# Altium schematic symbol library Thermistor - NTC.SchLib: 283 symbols (part 1 of 5)
Pins are listed as number, name and electrical type; pins without a type are passive.

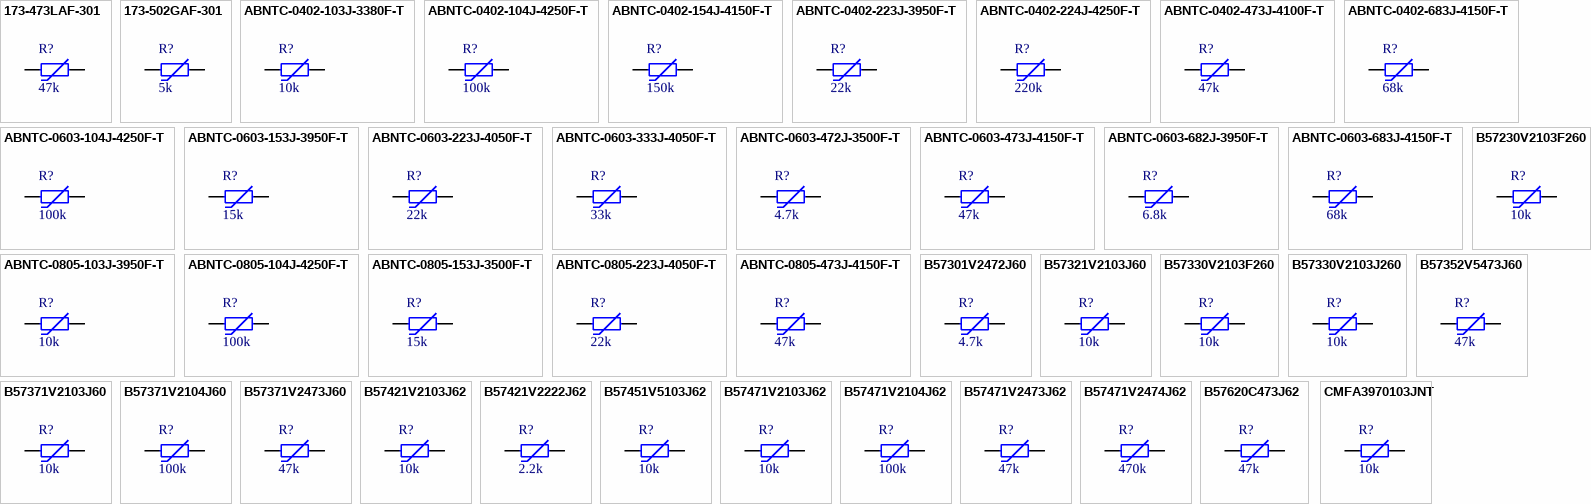
[diagram p0: symbols 173-473LAF-301 to CMFA3970103JNT]

## 173-473LAF-301
designator R?  Resistance in Ohms @ 25C: 47k
THERMISTOR NTC 47KOHM 5% 0805; Part Number: 173-473LAF-301; Manufacturer: Honeywell Sensing and Productivity Solutions; Value: 47k; TemperatureRange: -60C ~ 125C; B Value Tolerance: 1.3%; B25/85: 4150K; PartId: 16717; Supplier 1: Digi-Key; Supplier Part Number 1: 480-3151-2-ND; ComponentLink1Description: Datasheet; ComponentLink1URL: http://sensing.honeywell.com/index.php?ci_id=45718; ComponentLink2Description: Digi-Key Listing; ComponentLink2URL: https://www.digikey.com/product-detail/en/honeywell-sensing-and-productivity-solutions/173-473LAF-301/480-3151-2-ND/1886037; Price: 0.4831; Resistance Tolerance: 5%; Device Package: 0805 (2012 Metric)
footprint NTC 0805/2012
pins: 1, 2

## 173-502GAF-301
designator R?  Resistance in Ohms @ 25C: 5k
THERMISTOR NTC 5KOHM 5% 0805; Part Number: 173-502GAF-301; Manufacturer: Honeywell Sensing and Productivity Solutions; Value: 5k; TemperatureRange: -60C ~ 125C; B25/85: 3550K; PartId: 16741; Supplier 1: Digi-Key; Supplier Part Number 1: 480-3152-2-ND; ComponentLink1Description: Datasheet; ComponentLink1URL: http://sensing.honeywell.com/index.php?ci_id=45718; ComponentLink2Description: Digi-Key Listing; ComponentLink2URL: https://www.digikey.com/product-detail/en/honeywell-sensing-and-productivity-solutions/173-502GAF-301/480-3152-2-ND/1886038; Price: 0.3519; Resistance Tolerance: 5%; Device Package: 0805 (2012 Metric)
footprint NTC 0805/2012
pins: 1, 2

## ABNTC-0402-103J-3380F-T
designator R?  Resistance in Ohms @ 25C: 10k
NTC 10KOHM 5% 3380K 1%; Part Number: ABNTC-0402-103J-3380F-T; Manufacturer: Abracon LLC; Value: 10k; TemperatureRange: -55C ~ 125C; Power - Max: 100mW; PartId: 16514; Supplier 1: Digi-Key; Supplier Part Number 1: 535-12857-2-ND; ComponentLink1Description: Datasheet; ComponentLink1URL: http://www.abracon.com/Magnetics/inductors/ABNTC-0402.pdf; ComponentLink2Description: Digi-Key Listing; ComponentLink2URL: https://www.digikey.com/product-detail/en/abracon-llc/ABNTC-0402-103J-3380F-T/535-12857-2-ND/4245571; Price: 0.0493; Resistance Tolerance: 5%; B Value Tolerance: 1%; B25/50: 3380K; Device Package: 0402 (1005 Metric)
footprint FER 0402/1005
pins: 1, 2

## ABNTC-0402-104J-4250F-T
designator R?  Resistance in Ohms @ 25C: 100k
THERMISTOR NTC 100K OHM 5% 0402; Part Number: ABNTC-0402-104J-4250F-T; Manufacturer: Abracon LLC; TemperatureRange: -55C ~ 125C; B Value Tolerance: 1%; B25/50: 4250K; Power - Max: 100mW; Value: 100k; PartId: 16510; Supplier 1: Digi-Key; Supplier Part Number 1: 535-12861-2-ND; ComponentLink1Description: Datasheet; ComponentLink1URL: http://www.abracon.com/Magnetics/inductors/ABNTC-0402.pdf; ComponentLink2Description: Digi-Key Listing; ComponentLink2URL: https://www.digikey.com/product-detail/en/abracon-llc/ABNTC-0402-104J-4250F-T/535-12861-2-ND/4245575; Price: 0.0493; Resistance Tolerance: 5%; Device Package: 0402 (1005 Metric)
footprint FER 0402/1005
pins: 1, 2

## ABNTC-0402-154J-4150F-T
designator R?  Resistance in Ohms @ 25C: 150k
NTC 150KOHM 5% 4150K 1%; Part Number: ABNTC-0402-154J-4150F-T; Manufacturer: Abracon LLC; Value: 150k; TemperatureRange: -55C ~ 125C; Power - Max: 100mW; PartId: 16509; Supplier 1: Digi-Key; Supplier Part Number 1: 535-12862-2-ND; ComponentLink1Description: Datasheet; ComponentLink1URL: http://www.abracon.com/Magnetics/inductors/ABNTC-0402.pdf; ComponentLink2Description: Digi-Key Listing; ComponentLink2URL: https://www.digikey.com/product-detail/en/abracon-llc/ABNTC-0402-154J-4150F-T/535-12862-2-ND/4245576; Price: 0.0493; Resistance Tolerance: 5%; B Value Tolerance: 1%; B25/50: 4150K; Device Package: 0402 (1005 Metric)
footprint FER 0402/1005
pins: 1, 2

## ABNTC-0402-223J-3950F-T
designator R?  Resistance in Ohms @ 25C: 22k
NTC 22KOHM 5% 3950K 1%; Part Number: ABNTC-0402-223J-3950F-T; Manufacturer: Abracon LLC; Value: 22k; TemperatureRange: -55C ~ 125C; Power - Max: 100mW; PartId: 16513; Supplier 1: Digi-Key; Supplier Part Number 1: 535-12858-2-ND; ComponentLink1Description: Datasheet; ComponentLink1URL: http://www.abracon.com/Magnetics/inductors/ABNTC-0402.pdf; ComponentLink2Description: Digi-Key Listing; ComponentLink2URL: https://www.digikey.com/product-detail/en/abracon-llc/ABNTC-0402-223J-3950F-T/535-12858-2-ND/4245572; Price: 0.0493; Resistance Tolerance: 5%; B Value Tolerance: 1%; B25/50: 3950K; Device Package: 0402 (1005 Metric)
footprint FER 0402/1005
pins: 1, 2

## ABNTC-0402-224J-4250F-T
designator R?  Resistance in Ohms @ 25C: 220k
NTC 220KOHM 5% 4250K 1%; Part Number: ABNTC-0402-224J-4250F-T; Manufacturer: Abracon LLC; Value: 220k; TemperatureRange: -55C ~ 125C; Power - Max: 100mW; PartId: 16508; Supplier 1: Digi-Key; Supplier Part Number 1: 535-12863-2-ND; ComponentLink1Description: Datasheet; ComponentLink1URL: http://www.abracon.com/Magnetics/inductors/ABNTC-0402.pdf; ComponentLink2Description: Digi-Key Listing; ComponentLink2URL: https://www.digikey.com/product-detail/en/abracon-llc/ABNTC-0402-224J-4250F-T/535-12863-2-ND/4245577; Price: 0.0493; Resistance Tolerance: 5%; B Value Tolerance: 1%; B25/50: 4250K; Device Package: 0402 (1005 Metric)
footprint FER 0402/1005
pins: 1, 2

## ABNTC-0402-473J-4100F-T
designator R?  Resistance in Ohms @ 25C: 47k
NTC 47KOHM 5% 4100K 1%; Part Number: ABNTC-0402-473J-4100F-T; Manufacturer: Abracon LLC; Value: 47k; TemperatureRange: -55C ~ 125C; Power - Max: 100mW; PartId: 16512; Supplier 1: Digi-Key; Supplier Part Number 1: 535-12859-2-ND; ComponentLink1Description: Datasheet; ComponentLink1URL: http://www.abracon.com/Magnetics/inductors/ABNTC-0402.pdf; ComponentLink2Description: Digi-Key Listing; ComponentLink2URL: https://www.digikey.com/product-detail/en/abracon-llc/ABNTC-0402-473J-4100F-T/535-12859-2-ND/4245573; Price: 0.0493; Resistance Tolerance: 5%; B Value Tolerance: 1%; B25/50: 4100K; Device Package: 0402 (1005 Metric)
footprint FER 0402/1005
pins: 1, 2

## ABNTC-0402-683J-4150F-T
designator R?  Resistance in Ohms @ 25C: 68k
NTC 68KOHM 5% 4150K 1%; Part Number: ABNTC-0402-683J-4150F-T; Manufacturer: Abracon LLC; Value: 68k; TemperatureRange: -55C ~ 125C; Power - Max: 100mW; PartId: 16511; Supplier 1: Digi-Key; Supplier Part Number 1: 535-12860-2-ND; ComponentLink1Description: Datasheet; ComponentLink1URL: http://www.abracon.com/Magnetics/inductors/ABNTC-0402.pdf; ComponentLink2Description: Digi-Key Listing; ComponentLink2URL: https://www.digikey.com/product-detail/en/abracon-llc/ABNTC-0402-683J-4150F-T/535-12860-2-ND/4245574; Price: 0.0493; Resistance Tolerance: 5%; B Value Tolerance: 1%; B25/50: 4150K; Device Package: 0402 (1005 Metric)
footprint FER 0402/1005
pins: 1, 2

## ABNTC-0603-104J-4250F-T
designator R?  Resistance in Ohms @ 25C: 100k
THERMISTOR NTC 100K OHM 5% 0603; Part Number: ABNTC-0603-104J-4250F-T; Manufacturer: Abracon LLC; TemperatureRange: -55C ~ 125C; B Value Tolerance: 1%; B25/50: 4250K; Power - Max: 100mW; Value: 100k; PartId: 16646; Supplier 1: Digi-Key; Supplier Part Number 1: 535-12851-2-ND; ComponentLink1Description: Datasheet; ComponentLink1URL: http://www.abracon.com/Magnetics/inductors/ABNTC-0603.pdf; ComponentLink2Description: Digi-Key Listing; ComponentLink2URL: https://www.digikey.com/product-detail/en/abracon-llc/ABNTC-0603-104J-4250F-T/535-12851-2-ND/4245602; Price: 0.0799; Resistance Tolerance: 5%; Device Package: 0603 (1608 Metric)
footprint FER 0603/1608
pins: 1, 2

## ABNTC-0603-153J-3950F-T
designator R?  Resistance in Ohms @ 25C: 15k
NTC 15KOHM 5% 3950K 1%; Part Number: ABNTC-0603-153J-3950F-T; Manufacturer: Abracon LLC; Value: 15k; TemperatureRange: -55C ~ 125C; Power - Max: 100mW; PartId: 16650; Supplier 1: Digi-Key; Supplier Part Number 1: 535-12846-2-ND; ComponentLink1Description: Datasheet; ComponentLink1URL: http://www.abracon.com/Magnetics/inductors/ABNTC-0603.pdf; ComponentLink2Description: Digi-Key Listing; ComponentLink2URL: https://www.digikey.com/product-detail/en/abracon-llc/ABNTC-0603-153J-3950F-T/535-12846-2-ND/4245597; Price: 0.0799; Resistance Tolerance: 5%; B Value Tolerance: 1%; B25/50: 3950K; Device Package: 0603 (1608 Metric)
footprint FER 0603/1608
pins: 1, 2

## ABNTC-0603-223J-4050F-T
designator R?  Resistance in Ohms @ 25C: 22k
NTC 22KOHM 5% 4050K 1%; Part Number: ABNTC-0603-223J-4050F-T; Manufacturer: Abracon LLC; Value: 22k; TemperatureRange: -55C ~ 125C; Power - Max: 100mW; PartId: 16629; Supplier 1: Digi-Key; Supplier Part Number 1: 535-12847-2-ND; ComponentLink1Description: Datasheet; ComponentLink1URL: //media.digikey.com/pdf/Data%20Sheets/Abracon%20Corp%20PDFs/ABNTC-0603_Pkg_Dwg.PDF; ComponentLink2Description: Digi-Key Listing; ComponentLink2URL: https://www.digikey.com/product-detail/en/abracon-llc/ABNTC-0603-223J-4050F-T/535-12847-2-ND/4245598; Price: 0.0799; Resistance Tolerance: 5%; B Value Tolerance: 1%; B25/50: 4050K; Device Package: 0603 (1608 Metric)
footprint FER 0603/1608
pins: 1, 2

## ABNTC-0603-333J-4050F-T
designator R?  Resistance in Ohms @ 25C: 33k
NTC 33KOHM 5% 4050K 1%; Part Number: ABNTC-0603-333J-4050F-T; Manufacturer: Abracon LLC; Value: 33k; TemperatureRange: -55C ~ 125C; Power - Max: 100mW; PartId: 16649; Supplier 1: Digi-Key; Supplier Part Number 1: 535-12848-2-ND; ComponentLink1Description: Datasheet; ComponentLink1URL: http://www.abracon.com/Magnetics/inductors/ABNTC-0603.pdf; ComponentLink2Description: Digi-Key Listing; ComponentLink2URL: https://www.digikey.com/product-detail/en/abracon-llc/ABNTC-0603-333J-4050F-T/535-12848-2-ND/4245599; Price: 0.0799; Resistance Tolerance: 5%; B Value Tolerance: 1%; B25/50: 4050K; Device Package: 0603 (1608 Metric)
footprint FER 0603/1608
pins: 1, 2

## ABNTC-0603-472J-3500F-T
designator R?  Resistance in Ohms @ 25C: 4.7k
NTC 4.7KOHM 5% 3500K 1%; Part Number: ABNTC-0603-472J-3500F-T; Manufacturer: Abracon LLC; Value: 4.7k; TemperatureRange: -55C ~ 125C; Power - Max: 100mW; PartId: 16652; Supplier 1: Digi-Key; Supplier Part Number 1: 535-12844-2-ND; ComponentLink1Description: Datasheet; ComponentLink1URL: http://www.abracon.com/Magnetics/inductors/ABNTC-0603.pdf; ComponentLink2Description: Digi-Key Listing; ComponentLink2URL: https://www.digikey.com/product-detail/en/abracon-llc/ABNTC-0603-472J-3500F-T/535-12844-2-ND/4245595; Price: 0.0799; Resistance Tolerance: 5%; B Value Tolerance: 1%; B25/50: 3500K; Device Package: 0603 (1608 Metric)
footprint FER 0603/1608
pins: 1, 2

## ABNTC-0603-473J-4150F-T
designator R?  Resistance in Ohms @ 25C: 47k
NTC 47KOHM 5% 4150K 1%; Part Number: ABNTC-0603-473J-4150F-T; Manufacturer: Abracon LLC; Value: 47k; TemperatureRange: -55C ~ 125C; Power - Max: 100mW; PartId: 16648; Supplier 1: Digi-Key; Supplier Part Number 1: 535-12849-2-ND; ComponentLink1Description: Datasheet; ComponentLink1URL: http://www.abracon.com/Magnetics/inductors/ABNTC-0603.pdf; ComponentLink2Description: Digi-Key Listing; ComponentLink2URL: https://www.digikey.com/product-detail/en/abracon-llc/ABNTC-0603-473J-4150F-T/535-12849-2-ND/4245600; Price: 0.0799; Resistance Tolerance: 5%; B Value Tolerance: 1%; B25/50: 4150K; Device Package: 0603 (1608 Metric)
footprint FER 0603/1608
pins: 1, 2

## ABNTC-0603-682J-3950F-T
designator R?  Resistance in Ohms @ 25C: 6.8k
NTC 6.8KOHM 5% 3950K 1%; Part Number: ABNTC-0603-682J-3950F-T; Manufacturer: Abracon LLC; Value: 6.8k; TemperatureRange: -55C ~ 125C; Power - Max: 100mW; PartId: 16651; Supplier 1: Digi-Key; Supplier Part Number 1: 535-12845-2-ND; ComponentLink1Description: Datasheet; ComponentLink1URL: http://www.abracon.com/Magnetics/inductors/ABNTC-0603.pdf; ComponentLink2Description: Digi-Key Listing; ComponentLink2URL: https://www.digikey.com/product-detail/en/abracon-llc/ABNTC-0603-682J-3950F-T/535-12845-2-ND/4245596; Price: 0.0799; Resistance Tolerance: 5%; B Value Tolerance: 1%; B25/50: 3950K; Device Package: 0603 (1608 Metric)
footprint FER 0603/1608
pins: 1, 2

## ABNTC-0603-683J-4150F-T
designator R?  Resistance in Ohms @ 25C: 68k
NTC 68KOHM 5% 4150K 1%; Part Number: ABNTC-0603-683J-4150F-T; Manufacturer: Abracon LLC; Value: 68k; TemperatureRange: -55C ~ 125C; Power - Max: 100mW; PartId: 16647; Supplier 1: Digi-Key; Supplier Part Number 1: 535-12850-2-ND; ComponentLink1Description: Datasheet; ComponentLink1URL: http://www.abracon.com/Magnetics/inductors/ABNTC-0603.pdf; ComponentLink2Description: Digi-Key Listing; ComponentLink2URL: https://www.digikey.com/product-detail/en/abracon-llc/ABNTC-0603-683J-4150F-T/535-12850-2-ND/4245601; Price: 0.0799; Resistance Tolerance: 5%; B Value Tolerance: 1%; B25/50: 4150K; Device Package: 0603 (1608 Metric)
footprint FER 0603/1608
pins: 1, 2

## ABNTC-0805-103J-3950F-T
designator R?  Resistance in Ohms @ 25C: 10k
NTC 10KOHM 5% 3950K 1%; Part Number: ABNTC-0805-103J-3950F-T; Manufacturer: Abracon LLC; Value: 10k; TemperatureRange: -55C ~ 125C; Power - Max: 200mW; PartId: 16744; Supplier 1: Digi-Key; Supplier Part Number 1: 535-12852-2-ND; ComponentLink1Description: Datasheet; ComponentLink1URL: http://www.abracon.com/Magnetics/inductors/ABNTC-0805.pdf; ComponentLink2Description: Digi-Key Listing; ComponentLink2URL: https://www.digikey.com/product-detail/en/abracon-llc/ABNTC-0805-103J-3950F-T/535-12852-2-ND/4245607; Price: 0.0918; Resistance Tolerance: 5%; B Value Tolerance: 1%; B25/50: 3950K; Device Package: 0805 (2012 Metric)
footprint NTC 0805/2012
pins: 1, 2

## ABNTC-0805-104J-4250F-T
designator R?  Resistance in Ohms @ 25C: 100k
THERMISTOR NTC 100K OHM 5% 0805; Part Number: ABNTC-0805-104J-4250F-T; Manufacturer: Abracon LLC; TemperatureRange: -55C ~ 125C; B Value Tolerance: 1%; B25/50: 4250K; Power - Max: 200mW; Value: 100k; PartId: 16743; Supplier 1: Digi-Key; Supplier Part Number 1: 535-12856-2-ND; ComponentLink1Description: Datasheet; ComponentLink1URL: http://www.abracon.com/Magnetics/inductors/ABNTC-0805.pdf; ComponentLink2Description: Digi-Key Listing; ComponentLink2URL: https://www.digikey.com/product-detail/en/abracon-llc/ABNTC-0805-104J-4250F-T/535-12856-2-ND/4245612; Price: 0.0918; Resistance Tolerance: 5%; Device Package: 0805 (2012 Metric)
footprint NTC 0805/2012
pins: 1, 2

## ABNTC-0805-153J-3500F-T
designator R?  Resistance in Ohms @ 25C: 15k
NTC 15KOHM 5% 3500K 1%; Part Number: ABNTC-0805-153J-3500F-T; Manufacturer: Abracon LLC; Value: 15k; TemperatureRange: -55C ~ 125C; Power - Max: 200mW; PartId: 16730; Supplier 1: Digi-Key; Supplier Part Number 1: 535-12853-2-ND; ComponentLink1Description: Datasheet; ComponentLink1URL: http://www.abracon.com/Magnetics/inductors/ABNTC-0805.pdf; ComponentLink2Description: Digi-Key Listing; ComponentLink2URL: https://www.digikey.com/product-detail/en/abracon-llc/ABNTC-0805-153J-3500F-T/535-12853-2-ND/4245608; Price: 0.0918; Resistance Tolerance: 5%; B Value Tolerance: 1%; B25/50: 3500K; Device Package: 0805 (2012 Metric)
footprint NTC 0805/2012
pins: 1, 2

## ABNTC-0805-223J-4050F-T
designator R?  Resistance in Ohms @ 25C: 22k
NTC 22KOHM 5% 4050K 1%; Part Number: ABNTC-0805-223J-4050F-T; Manufacturer: Abracon LLC; Value: 22k; TemperatureRange: -55C ~ 125C; Power - Max: 200mW; PartId: 16729; Supplier 1: Digi-Key; Supplier Part Number 1: 535-12854-2-ND; ComponentLink1Description: Datasheet; ComponentLink1URL: http://www.abracon.com/Magnetics/inductors/ABNTC-0805.pdf; ComponentLink2Description: Digi-Key Listing; ComponentLink2URL: https://www.digikey.com/product-detail/en/abracon-llc/ABNTC-0805-223J-4050F-T/535-12854-2-ND/4245609; Price: 0.0918; Resistance Tolerance: 5%; B Value Tolerance: 1%; B25/50: 4050K; Device Package: 0805 (2012 Metric)
footprint NTC 0805/2012
pins: 1, 2

## ABNTC-0805-473J-4150F-T
designator R?  Resistance in Ohms @ 25C: 47k
NTC 47KOHM 5% 4150K 1%; Part Number: ABNTC-0805-473J-4150F-T; Manufacturer: Abracon LLC; Value: 47k; TemperatureRange: -55C ~ 125C; Power - Max: 200mW; PartId: 16728; Supplier 1: Digi-Key; Supplier Part Number 1: 535-12855-2-ND; ComponentLink1Description: Datasheet; ComponentLink1URL: http://www.abracon.com/Magnetics/inductors/ABNTC-0805.pdf; ComponentLink2Description: Digi-Key Listing; ComponentLink2URL: https://www.digikey.com/product-detail/en/abracon-llc/ABNTC-0805-473J-4150F-T/535-12855-2-ND/4245611; Price: 0.0918; Resistance Tolerance: 5%; B Value Tolerance: 1%; B25/50: 4150K; Device Package: 0805 (2012 Metric)
footprint NTC 0805/2012
pins: 1, 2

## B57230V2103F260
designator R?  Resistance in Ohms @ 25C: 10k
NTC 0402 10K OHM 1%; Part Number: B57230V2103F260; Manufacturer: EPCOS (TDK); TemperatureRange: -55C ~ 125C; B25/50: 3380K; B25/85: 3435K; B25/100: 3455K; Power - Max: 150mW; Value: 10k; PartId: 16563; Supplier 1: Digi-Key; Supplier Part Number 1: 495-5814-2-ND; ComponentLink1Description: Datasheet; ComponentLink1URL: http://en.tdk.eu/inf/50/db/ntc_13/NTC_SMD_Standard_series_0402.pdf; ComponentLink2Description: Digi-Key Listing; ComponentLink2URL: https://www.digikey.com/product-detail/en/epcos-tdk/B57230V2103F260/495-5814-2-ND/4360619; Price: 0.1304; Resistance Tolerance: 1%; B Value Tolerance: 1%; Device Package: 0402 (1005 Metric)
footprint FER 0402/1005
pins: 1, 2

## B57301V2472J60
designator R?  Resistance in Ohms @ 25C: 4.7k
NTC THERMISTOR 0603 4K7 J60; Part Number: B57301V2472J60; Manufacturer: EPCOS (TDK); Value: 4.7k; TemperatureRange: -55C ~ 125C; Resistance Tolerance: 5%; B Value Tolerance: 3%; B25/50: 3590K; B25/85: 3635K; B25/100: 3650K; Power - Max: 180mW; PartId: 16660; Supplier 1: Digi-Key; Supplier Part Number 1: 495-7099-2-ND; ComponentLink1Description: Datasheet; ComponentLink1URL: https://product.tdk.com/search-template/en/documents/data_sheet/50/db/ntc_13/NTC_SMD_Standard_series_0603.pdf; ComponentLink2Description: Digi-Key Listing; ComponentLink2URL: https://www.digikey.com/product-detail/en/epcos-tdk/B57301V2472J60/495-7099-2-ND/3500329; Price: 0.1225; Device Package: 0603 (1608 Metric)
footprint FER 0603/1608
pins: 1, 2

## B57321V2103J60
designator R?  Resistance in Ohms @ 25C: 10k
THERMISTOR NTC 10K OHM 5% 0603; Part Number: B57321V2103J60; Manufacturer: EPCOS (TDK); TemperatureRange: -55C ~ 125C; B Value Tolerance: 3%; B25/50: 3940K; B25/85: 3980K; B25/100: 4000K; Power - Max: 180mW; Value: 10k; PartId: 16583; Supplier 1: Digi-Key; Supplier Part Number 1: 495-2104-2-ND; ComponentLink1Description: Datasheet; ComponentLink1URL: https://product.tdk.com/search-template/en/documents/data_sheet/50/db/ntc_13/NTC_SMD_Standard_series_0603.pdf; ComponentLink2Description: Digi-Key Listing; ComponentLink2URL: https://www.digikey.com/product-detail/en/epcos-tdk/B57321V2103J60/495-2104-2-ND/739857; Price: 0.1225; Resistance Tolerance: 5%; Device Package: 0603 (1608 Metric)
footprint FER 0603/1608
pins: 1, 2

## B57330V2103F260
designator R?  Resistance in Ohms @ 25C: 10k
NTC 0603 10K OHM 1%; Part Number: B57330V2103F260; Manufacturer: EPCOS (TDK); TemperatureRange: -55C ~ 125C; B25/50: 3380K; B25/85: 3435K; B25/100: 3455K; Power - Max: 180mW; Value: 10k; PartId: 16635; Supplier 1: Digi-Key; Supplier Part Number 1: 495-5816-2-ND; ComponentLink1Description: Datasheet; ComponentLink1URL: https://product.tdk.com/search-template/en/documents/data_sheet/50/db/ntc_13/NTC_SMD_Standard_series_0603.pdf; ComponentLink2Description: Digi-Key Listing; ComponentLink2URL: https://www.digikey.com/product-detail/en/epcos-tdk/B57330V2103F260/495-5816-2-ND/4360621; Price: 0.1899; Resistance Tolerance: 1%; B Value Tolerance: 1%; Device Package: 0603 (1608 Metric)
footprint FER 0603/1608
pins: 1, 2

## B57330V2103J260
designator R?  Resistance in Ohms @ 25C: 10k
NTC 0603 10K OHM 5%; Part Number: B57330V2103J260; Manufacturer: EPCOS (TDK); TemperatureRange: -55C ~ 125C; B Value Tolerance: 3%; B25/50: 3380K; B25/85: 3435K; B25/100: 3455K; Power - Max: 180mW; Value: 10k; PartId: 16688; Supplier 1: Digi-Key; Supplier Part Number 1: 495-5817-2-ND; ComponentLink1Description: Datasheet; ComponentLink1URL: https://product.tdk.com/search-template/en/documents/data_sheet/50/db/ntc_13/NTC_SMD_Standard_series_0603.pdf; ComponentLink2Description: Digi-Key Listing; ComponentLink2URL: https://www.digikey.com/product-detail/en/epcos-tdk/B57330V2103J260/495-5817-2-ND/4360622; Price: 0.1225; Resistance Tolerance: 5%; Device Package: 0603 (1608 Metric)
footprint FER 0603/1608
pins: 1, 2

## B57352V5473J60
designator R?  Resistance in Ohms @ 25C: 47k
0603 47K J60; Part Number: B57352V5473J60; Manufacturer: EPCOS (TDK); TemperatureRange: -40C ~ 150C; Resistance Tolerance: 5%; B Value Tolerance: 3%; B25/50: 4386K; B25/85: 4455K; B25/100: 4480K; Power - Max: 180mW; Value: 47k; PartId: 16654; Supplier 1: Digi-Key; Supplier Part Number 1: 495-7440-2-ND; ComponentLink1Description: Datasheet; ComponentLink1URL: https://product.tdk.com/search-template/en/documents/data_sheet/50/db/ntc_13/NTC_SMD_Automotive_series_0603.pdf; ComponentLink2Description: Digi-Key Listing; ComponentLink2URL: https://www.digikey.com/product-detail/en/epcos-tdk/B57352V5473J60/495-7440-2-ND/3829839; Price: 0.1518; Device Package: 0603 (1608 Metric)
footprint FER 0603/1608
pins: 1, 2

## B57371V2103J60
designator R?  Resistance in Ohms @ 25C: 10k
0603 10K J60; Part Number: B57371V2103J60; Manufacturer: EPCOS (TDK); TemperatureRange: -55C ~ 125C; Resistance Tolerance: 5%; B Value Tolerance: 3%; B25/50: 4386K; B25/85: 4455K; B25/100: 4480K; Power - Max: 180mW; Value: 10k; PartId: 16659; Supplier 1: Digi-Key; Supplier Part Number 1: 495-7441-2-ND; ComponentLink1Description: Datasheet; ComponentLink1URL: https://product.tdk.com/search-template/en/documents/data_sheet/50/db/ntc_13/NTC_SMD_Standard_series_0603.pdf; ComponentLink2Description: Digi-Key Listing; ComponentLink2URL: https://www.digikey.com/product-detail/en/epcos-tdk/B57371V2103J60/495-7441-2-ND/3829841; Price: 0.1225; Device Package: 0603 (1608 Metric)
footprint FER 0603/1608
pins: 1, 2

## B57371V2104J60
designator R?  Resistance in Ohms @ 25C: 100k
THERMISTOR NTC 100K OHM 5% 0603; Part Number: B57371V2104J60; Manufacturer: EPCOS (TDK); TemperatureRange: -55C ~ 125C; B Value Tolerance: 3%; B25/50: 4386K; B25/85: 4455K; B25/100: 4480K; Power - Max: 180mW; Value: 100k; PartId: 16687; Supplier 1: Digi-Key; Supplier Part Number 1: 495-7100-2-ND; ComponentLink1Description: Datasheet; ComponentLink1URL: https://product.tdk.com/search-template/en/documents/data_sheet/50/db/ntc_13/NTC_SMD_Standard_series_0603.pdf; ComponentLink2Description: Digi-Key Listing; ComponentLink2URL: https://www.digikey.com/product-detail/en/epcos-tdk/B57371V2104J60/495-7100-2-ND/3829843; Price: 0.1225; Resistance Tolerance: 5%; Device Package: 0603 (1608 Metric)
footprint FER 0603/1608
pins: 1, 2

## B57371V2473J60
designator R?  Resistance in Ohms @ 25C: 47k
0603 47K J60; Part Number: B57371V2473J60; Manufacturer: EPCOS (TDK); TemperatureRange: -55C ~ 125C; Resistance Tolerance: 5%; B Value Tolerance: 3%; B25/50: 4386K; B25/85: 4455K; B25/100: 4480K; Power - Max: 180mW; Value: 47k; PartId: 16658; Supplier 1: Digi-Key; Supplier Part Number 1: 495-7442-2-ND; ComponentLink1Description: Datasheet; ComponentLink1URL: https://product.tdk.com/search-template/en/documents/data_sheet/50/db/ntc_13/NTC_SMD_Standard_series_0603.pdf; ComponentLink2Description: Digi-Key Listing; ComponentLink2URL: https://www.digikey.com/product-detail/en/epcos-tdk/B57371V2473J60/495-7442-2-ND/3829847; Price: 0.1225; Device Package: 0603 (1608 Metric)
footprint FER 0603/1608
pins: 1, 2

## B57421V2103J62
designator R?  Resistance in Ohms @ 25C: 10k
THERMISTOR NTC 10K OHM 5% 0805; Part Number: B57421V2103J62; Manufacturer: EPCOS (TDK); TemperatureRange: -55C ~ 125C; B Value Tolerance: 3%; B25/50: 3940K; B25/85: 3980K; B25/100: 4000K; Power - Max: 210mW; Value: 10k; PartId: 16738; Supplier 1: Digi-Key; Supplier Part Number 1: 495-2116-2-ND; ComponentLink1Description: Datasheet; ComponentLink1URL: https://product.tdk.com/search-template/en/documents/data_sheet/50/db/ntc_13/NTC_SMD_Standard_series_0805.pdf; ComponentLink2Description: Digi-Key Listing; ComponentLink2URL: https://www.digikey.com/product-detail/en/epcos-tdk/B57421V2103J62/495-2116-2-ND/739863; Price: 0.1725; Resistance Tolerance: 5%; Device Package: 0805 (2012 Metric)
footprint NTC 0805/2012
pins: 1, 2

## B57421V2222J62
designator R?  Resistance in Ohms @ 25C: 2.2k
NTC THERMISTOR 0805 2K2 J62; Part Number: B57421V2222J62; Manufacturer: EPCOS (TDK); Value: 2.2k; TemperatureRange: -55C ~ 125C; Resistance Tolerance: 5%; B Value Tolerance: 3%; B25/50: 3940K; B25/85: 3980K; B25/100: 4000K; Power - Max: 210mW; PartId: 16758; Supplier 1: Digi-Key; Supplier Part Number 1: 495-7446-2-ND; ComponentLink1Description: Datasheet; ComponentLink1URL: https://product.tdk.com/search-template/en/documents/data_sheet/50/db/ntc_13/NTC_SMD_Standard_series_0805.pdf; ComponentLink2Description: Digi-Key Listing; ComponentLink2URL: https://www.digikey.com/product-detail/en/epcos-tdk/B57421V2222J62/495-7446-2-ND/3500352; Price: 0.184; Device Package: 0805 (2012 Metric)
footprint NTC 0805/2012
pins: 1, 2

## B57451V5103J62
designator R?  Resistance in Ohms @ 25C: 10k
0805 10K J62 B-4000; Part Number: B57451V5103J62; Manufacturer: EPCOS (TDK); TemperatureRange: -40C ~ 150C; Resistance Tolerance: 5%; B Value Tolerance: 3%; B25/50: 3940K; B25/85: 3980K; B25/100: 4000K; Power - Max: 210mW; Value: 10k; PartId: 16745; Supplier 1: Digi-Key; Supplier Part Number 1: 495-7448-2-ND; ComponentLink1Description: Datasheet; ComponentLink1URL: https://product.tdk.com/search-template/en/documents/data_sheet/50/db/ntc_13/NTC_SMD_Automotive_series_0805.pdf; ComponentLink2Description: Digi-Key Listing; ComponentLink2URL: https://www.digikey.com/product-detail/en/epcos-tdk/B57451V5103J62/495-7448-2-ND/3829875; Price: 0.1867; Device Package: 0805 (2012 Metric)
footprint NTC 0805/2012
pins: 1, 2

## B57471V2103J62
designator R?  Resistance in Ohms @ 25C: 10k
0805 10K J62; Part Number: B57471V2103J62; Manufacturer: EPCOS (TDK); TemperatureRange: -55C ~ 125C; Resistance Tolerance: 5%; B Value Tolerance: 3%; B25/50: 4386K; B25/85: 4455K; B25/100: 4480K; Power - Max: 210mW; Value: 10k; PartId: 16757; Supplier 1: Digi-Key; Supplier Part Number 1: 495-7449-2-ND; ComponentLink1Description: Datasheet; ComponentLink1URL: https://product.tdk.com/search-template/en/documents/data_sheet/50/db/ntc_13/NTC_SMD_Standard_series_0805.pdf; ComponentLink2Description: Digi-Key Listing; ComponentLink2URL: https://www.digikey.com/product-detail/en/epcos-tdk/B57471V2103J62/495-7449-2-ND/3829885; Price: 0.184; Device Package: 0805 (2012 Metric)
footprint NTC 0805/2012
pins: 1, 2

## B57471V2104J62
designator R?  Resistance in Ohms @ 25C: 100k
THERMISTOR NTC 100K OHM 5% 0805; Part Number: B57471V2104J62; Manufacturer: EPCOS (TDK); TemperatureRange: -55C ~ 125C; B Value Tolerance: 3%; B25/50: 4386K; B25/85: 4455K; B25/100: 4480K; Power - Max: 210mW; Value: 100k; PartId: 16756; Supplier 1: Digi-Key; Supplier Part Number 1: 495-7450-2-ND; ComponentLink1Description: Datasheet; ComponentLink1URL: https://product.tdk.com/search-template/en/documents/data_sheet/50/db/ntc_13/NTC_SMD_Standard_series_0805.pdf; ComponentLink2Description: Digi-Key Listing; ComponentLink2URL: https://www.digikey.com/product-detail/en/epcos-tdk/B57471V2104J62/495-7450-2-ND/3829887; Price: 0.184; Resistance Tolerance: 5%; Device Package: 0805 (2012 Metric)
footprint NTC 0805/2012
pins: 1, 2

## B57471V2473J62
designator R?  Resistance in Ohms @ 25C: 47k
0805 47K J62; Part Number: B57471V2473J62; Manufacturer: EPCOS (TDK); TemperatureRange: -55C ~ 125C; Resistance Tolerance: 5%; B Value Tolerance: 3%; B25/50: 4386K; B25/85: 4455K; B25/100: 4450K; Power - Max: 210mW; Value: 47k; PartId: 16755; Supplier 1: Digi-Key; Supplier Part Number 1: B57471V2473J62-ND; ComponentLink1Description: Datasheet; ComponentLink1URL: https://product.tdk.com/search-template/en/documents/data_sheet/50/db/ntc_13/NTC_SMD_Standard_series_0805.pdf; ComponentLink2Description: Digi-Key Listing; ComponentLink2URL: https://www.digikey.com/product-detail/en/epcos-tdk/B57471V2473J62/B57471V2473J62-ND/3829893; Price: 0.184; Device Package: 0805 (2012 Metric)
footprint NTC 0805/2012
pins: 1, 2

## B57471V2474J62
designator R?  Resistance in Ohms @ 25C: 470k
0805 470K J62; Part Number: B57471V2474J62; Manufacturer: EPCOS (TDK); TemperatureRange: -55C ~ 125C; Resistance Tolerance: 5%; B Value Tolerance: 3%; B25/50: 4386K; B25/85: 4455K; B25/100: 4480K; Power - Max: 210mW; Value: 470k; PartId: 16740; Supplier 1: Digi-Key; Supplier Part Number 1: 495-7451-2-ND; ComponentLink1Description: Datasheet; ComponentLink1URL: https://product.tdk.com/search-template/en/documents/data_sheet/50/db/ntc_13/NTC_SMD_Standard_series_0805.pdf; ComponentLink2Description: Digi-Key Listing; ComponentLink2URL: https://www.digikey.com/product-detail/en/epcos-tdk/B57471V2474J62/495-7451-2-ND/3829895; Price: 0.184; Device Package: 0805 (2012 Metric)
footprint NTC 0805/2012
pins: 1, 2

## B57620C473J62
designator R?  Resistance in Ohms @ 25C: 47k
THERMISTOR NTC 47K OHM 5% 0805; Part Number: B57620C473J62; Manufacturer: EPCOS (TDK); TemperatureRange: -55C ~ 125C; B Value Tolerance: 3%; B25/50: 4030K; B25/85: 4080K; B25/100: 4100K; Power - Max: 210mW; Value: 47k; PartId: 16742; Supplier 1: Digi-Key; Supplier Part Number 1: B57620C473J62-ND; ComponentLink1Description: Datasheet; ComponentLink1URL: //media.digikey.com/pdf/Data%20Sheets/Epcos%20PDFs/B57620C.pdf; ComponentLink2Description: Digi-Key Listing; ComponentLink2URL: https://www.digikey.com/product-detail/en/epcos-tdk/B57620C473J62/B57620C473J62-ND/652356; Price: 0.1822; Resistance Tolerance: 5%; Device Package: 0805 (2012 Metric)
footprint NTC 0805/2012
pins: 1, 2

## CMFA3970103JNT
designator R?  Resistance in Ohms @ 25C: 10k
THERMISTOR NTC 10K OHM 5% 0603; Part Number: CMFA3970103JNT; Manufacturer: Cantherm; TemperatureRange: -40C ~ 125C; B25/50: 3970K; Power - Max: 100mW; Value: 10k; PartId: 16636; Supplier 1: Digi-Key; Supplier Part Number 1: 317-1473-2-ND; ComponentLink1Description: Datasheet; ComponentLink1URL: http://www.cantherm.com/media/productPDF/CMF_11x17_AUGUST_2014.pdf; ComponentLink2Description: Digi-Key Listing; ComponentLink2URL: https://www.digikey.com/product-detail/en/cantherm/CMFA3970103JNT/317-1473-2-ND/2027338; Price: 0.1143; Resistance Tolerance: 5%; Device Package: 0603 (1608 Metric)
footprint FER 0603/1608
pins: 1, 2

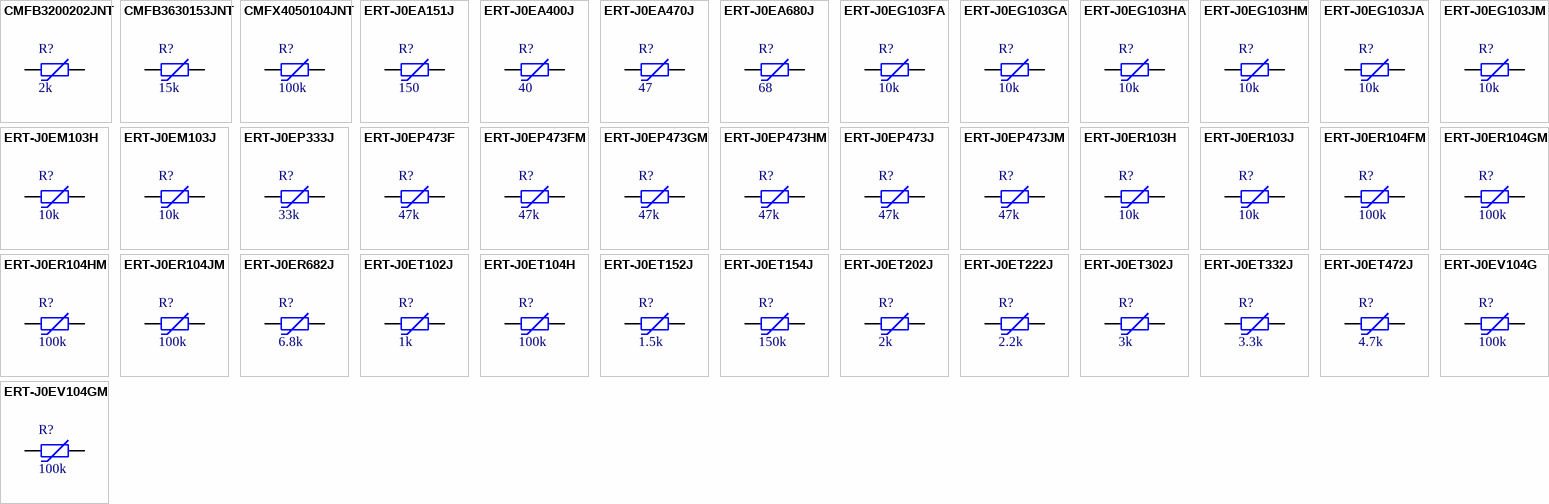
[diagram p1: symbols CMFB3200202JNT to ERT-J0EV104GM]

## CMFB3200202JNT
designator R?  Resistance in Ohms @ 25C: 2k
THERMISTOR NTC 2.0K OHM 5% 0805; Part Number: CMFB3200202JNT; Manufacturer: Cantherm; Value: 2k; TemperatureRange: -40C ~ 125C; B25/85: 3200K; Power - Max: 200mW; PartId: 16705; Supplier 1: Digi-Key; Supplier Part Number 1: 317-1480-2-ND; ComponentLink1Description: Datasheet; ComponentLink1URL: http://www.cantherm.com/media/productPDF/CMF_11x17_AUGUST_2014.pdf; ComponentLink2Description: Digi-Key Listing; ComponentLink2URL: https://www.digikey.com/product-detail/en/cantherm/CMFB3200202JNT/317-1480-2-ND/2027345; Price: 0.149; Resistance Tolerance: 5%; Device Package: 0805 (2012 Metric)
footprint NTC 0805/2012
pins: 1, 2

## CMFB3630153JNT
designator R?  Resistance in Ohms @ 25C: 15k
THERMISTOR NTC 15K OHM 5% 0805; Part Number: CMFB3630153JNT; Manufacturer: Cantherm; TemperatureRange: -40C ~ 125C; B25/50: 3630K; Power - Max: 200mW; Value: 15k; PartId: 16709; Supplier 1: Digi-Key; Supplier Part Number 1: 317-1483-2-ND; ComponentLink1Description: Datasheet; ComponentLink1URL: http://www.cantherm.com/media/productPDF/CMF_11x17_AUGUST_2014.pdf; ComponentLink2Description: Digi-Key Listing; ComponentLink2URL: https://www.digikey.com/product-detail/en/cantherm/CMFB3630153JNT/317-1483-2-ND/2027348; Price: 0.149; Resistance Tolerance: 5%; Device Package: 0805 (2012 Metric)
footprint NTC 0805/2012
pins: 1, 2

## CMFX4050104JNT
designator R?  Resistance in Ohms @ 25C: 100k
THERMISTOR NTC 100K OHM 5% 0402; Part Number: CMFX4050104JNT; Manufacturer: Cantherm; TemperatureRange: -40C ~ 125C; B25/50: 4050K; Value: 100k; PartId: 16544; Supplier 1: Digi-Key; Supplier Part Number 1: 317-1472-2-ND; ComponentLink1Description: Datasheet; ComponentLink1URL: http://www.cantherm.com/media/productPDF/CMF_11x17_AUGUST_2014.pdf; ComponentLink2Description: Digi-Key Listing; ComponentLink2URL: https://www.digikey.com/product-detail/en/cantherm/CMFX4050104JNT/317-1472-2-ND/2027337; Price: 0.1241; Resistance Tolerance: 5%; Device Package: 0402 (1005 Metric)
footprint FER 0402/1005
pins: 1, 2

## ERT-J0EA151J
designator R?  Resistance in Ohms @ 25C: 150
THERMISTOR NTC 150 OHM 5% 0402; Part Number: ERT-J0EA151J; Manufacturer: Panasonic Electronic Components; Value: 150; TemperatureRange: -40C ~ 125C; B Value Tolerance: 3%; B25/50: 2800K; B25/85: 2750K; Power - Max: 66mW; PartId: 16566; Supplier 1: Digi-Key; Supplier Part Number 1: P10563TR-ND; ComponentLink1Description: Datasheet; ComponentLink1URL: http://industrial.panasonic.com/www-cgi/jvcr13pz.cgi?E+PZ+3+AUA0001+ERTJ0EA151J+7+WW; ComponentLink2Description: Digi-Key Listing; ComponentLink2URL: https://www.digikey.com/product-detail/en/panasonic-electronic-components/ERT-J0EA151J/P10563TR-ND/269369; Price: 0.0705; Resistance Tolerance: 5%; Device Package: 0402 (1005 Metric)
footprint FER 0402/1005
pins: 1, 2

## ERT-J0EA400J
designator R?  Resistance in Ohms @ 25C: 40
THERMISTOR NTC 40 OHM 5% 0402; Part Number: ERT-J0EA400J; Manufacturer: Panasonic Electronic Components; Value: 40; TemperatureRange: -40C ~ 125C; B Value Tolerance: 3%; B25/50: 2750K; B25/85: 2700K; Power - Max: 66mW; PartId: 16487; Supplier 1: Digi-Key; Supplier Part Number 1: P10559TR-ND; ComponentLink1Description: Datasheet; ComponentLink1URL: http://industrial.panasonic.com/www-cgi/jvcr13pz.cgi?E+PZ+3+AUA0001+ERTJ0EA400J+7+WW; ComponentLink2Description: Digi-Key Listing; ComponentLink2URL: https://www.digikey.com/product-detail/en/panasonic-electronic-components/ERT-J0EA400J/P10559TR-ND/269365; Price: 0.0705; Resistance Tolerance: 5%; Device Package: 0402 (1005 Metric)
footprint FER 0402/1005
pins: 1, 2

## ERT-J0EA470J
designator R?  Resistance in Ohms @ 25C: 47
THERMISTOR NTC 47 OHM 5% 0402; Part Number: ERT-J0EA470J; Manufacturer: Panasonic Electronic Components; Value: 47; TemperatureRange: -40C ~ 125C; B Value Tolerance: 3%; B25/50: 2750K; B25/85: 2700K; Power - Max: 66mW; PartId: 16552; Supplier 1: Digi-Key; Supplier Part Number 1: P10560TR-ND; ComponentLink1Description: Datasheet; ComponentLink1URL: http://industrial.panasonic.com/www-cgi/jvcr13pz.cgi?E+PZ+3+AUA0001+ERTJ0EA470J+7+WW; ComponentLink2Description: Digi-Key Listing; ComponentLink2URL: https://www.digikey.com/product-detail/en/panasonic-electronic-components/ERT-J0EA470J/P10560TR-ND/269366; Price: 0.0705; Resistance Tolerance: 5%; Device Package: 0402 (1005 Metric)
footprint FER 0402/1005
pins: 1, 2

## ERT-J0EA680J
designator R?  Resistance in Ohms @ 25C: 68
THERMISTOR NTC 68 OHM 5% 0402; Part Number: ERT-J0EA680J; Manufacturer: Panasonic Electronic Components; Value: 68; TemperatureRange: -40C ~ 125C; B Value Tolerance: 3%; B25/50: 2800K; B25/85: 2750K; Power - Max: 66mW; PartId: 16545; Supplier 1: Digi-Key; Supplier Part Number 1: P10561TR-ND; ComponentLink1Description: Datasheet; ComponentLink1URL: http://industrial.panasonic.com/www-cgi/jvcr13pz.cgi?E+PZ+3+AUA0001+ERTJ0EA680J+7+WW; ComponentLink2Description: Digi-Key Listing; ComponentLink2URL: https://www.digikey.com/product-detail/en/panasonic-electronic-components/ERT-J0EA680J/P10561TR-ND/269367; Price: 0.0705; Resistance Tolerance: 5%; Device Package: 0402 (1005 Metric)
footprint FER 0402/1005
pins: 1, 2

## ERT-J0EG103FA
designator R?  Resistance in Ohms @ 25C: 10k
THERMISTOR NTC 10K OHM 1% 0402; Part Number: ERT-J0EG103FA; Manufacturer: Panasonic Electronic Components; TemperatureRange: -40C ~ 125C; B25/50: 3375K; B25/85: 3435K; Power - Max: 66mW; Value: 10k; PartId: 16480; Supplier 1: Digi-Key; Supplier Part Number 1: P12007TR-ND; ComponentLink1Description: Datasheet; ComponentLink1URL: http://industrial.panasonic.com/www-cgi/jvcr13pz.cgi?E+PZ+3+AUA0001+ERTJ0EG103FA+7+WW; ComponentLink2Description: Digi-Key Listing; ComponentLink2URL: https://www.digikey.com/product-detail/en/panasonic-electronic-components/ERT-J0EG103FA/P12007TR-ND/526528; Price: 0.1459; Resistance Tolerance: 1%; B Value Tolerance: 1%; Device Package: 0402 (1005 Metric)
footprint FER 0402/1005
pins: 1, 2

## ERT-J0EG103GA
designator R?  Resistance in Ohms @ 25C: 10k
THERMISTOR NTC 10K OHM 2% 0402; Part Number: ERT-J0EG103GA; Manufacturer: Panasonic Electronic Components; TemperatureRange: -40C ~ 125C; B Value Tolerance: 1%; B25/50: 3375K; B25/85: 3435K; Power - Max: 66mW; Value: 10k; PartId: 16484; Supplier 1: Digi-Key; Supplier Part Number 1: P12008TR-ND; ComponentLink1Description: Datasheet; ComponentLink1URL: http://industrial.panasonic.com/www-cgi/jvcr13pz.cgi?E+PZ+3+AUA0001+ERTJ0EG103GA+7+WW; ComponentLink2Description: Digi-Key Listing; ComponentLink2URL: https://www.digikey.com/product-detail/en/panasonic-electronic-components/ERT-J0EG103GA/P12008TR-ND/526529; Price: 0.1264; Resistance Tolerance: 2%; Device Package: 0402 (1005 Metric)
footprint FER 0402/1005
pins: 1, 2

## ERT-J0EG103HA
designator R?  Resistance in Ohms @ 25C: 10k
THERMISTOR NTC 10K OHM 3% 0402; Part Number: ERT-J0EG103HA; Manufacturer: Panasonic Electronic Components; TemperatureRange: -40C ~ 125C; B Value Tolerance: 1%; B25/50: 3375K; B25/85: 3435K; Power - Max: 66mW; Value: 10k; PartId: 16551; Supplier 1: Digi-Key; Supplier Part Number 1: P12009TR-ND; ComponentLink1Description: Datasheet; ComponentLink1URL: http://industrial.panasonic.com/www-cgi/jvcr13pz.cgi?E+PZ+3+AUA0001+ERTJ0EG103HA+7+WW; ComponentLink2Description: Digi-Key Listing; ComponentLink2URL: https://www.digikey.com/product-detail/en/panasonic-electronic-components/ERT-J0EG103HA/P12009TR-ND/526530; Price: 0.1054; Resistance Tolerance: 3%; Device Package: 0402 (1005 Metric)
footprint FER 0402/1005
pins: 1, 2

## ERT-J0EG103HM
designator R?  Resistance in Ohms @ 25C: 10k
SIZE 0402 / RESISTANCE TOLERANCE; Part Number: ERT-J0EG103HM; Manufacturer: Panasonic Electronic Components; Value: 10k; TemperatureRange: -40C ~ 150C; Resistance Tolerance: 3%; B Value Tolerance: 1%; B25/50: 3380K; B25/85: 3435K; Power - Max: 66mW; PartId: 16526; Supplier 1: Digi-Key; Supplier Part Number 1: P19101TR-ND; ComponentLink1Description: Datasheet; ComponentLink1URL: https://industrial.panasonic.com/cdbs/www-data/pdf/AUA0000/AUA0000CE2.pdf; ComponentLink2Description: Digi-Key Listing; ComponentLink2URL: https://www.digikey.com/product-detail/en/panasonic-electronic-components/ERT-J0EG103HM/P19101TR-ND/5878747; Price: 0.054; Device Package: 0402 (1005 Metric)
footprint FER 0402/1005
pins: 1, 2

## ERT-J0EG103JA
designator R?  Resistance in Ohms @ 25C: 10k
THERMISTOR NTC 10K OHM 5% 0402; Part Number: ERT-J0EG103JA; Manufacturer: Panasonic Electronic Components; TemperatureRange: -40C ~ 125C; B Value Tolerance: 1%; B25/50: 3375K; B25/85: 3435K; Power - Max: 66mW; Value: 10k; PartId: 16568; Supplier 1: Digi-Key; Supplier Part Number 1: P12010TR-ND; ComponentLink1Description: Datasheet; ComponentLink1URL: http://industrial.panasonic.com/www-cgi/jvcr13pz.cgi?E+PZ+3+AUA0001+ERTJ0EG103JA+7+WW; ComponentLink2Description: Digi-Key Listing; ComponentLink2URL: https://www.digikey.com/product-detail/en/panasonic-electronic-components/ERT-J0EG103JA/P12010TR-ND/526531; Price: 0.0661; Resistance Tolerance: 5%; Device Package: 0402 (1005 Metric)
footprint FER 0402/1005
pins: 1, 2

## ERT-J0EG103JM
designator R?  Resistance in Ohms @ 25C: 10k
SIZE 0402 / RESISTANCE TOLERANCE; Part Number: ERT-J0EG103JM; Manufacturer: Panasonic Electronic Components; Value: 10k; TemperatureRange: -40C ~ 150C; Resistance Tolerance: 5%; B Value Tolerance: 1%; B25/50: 3380K; B25/85: 3435K; Power - Max: 66mW; PartId: 16530; Supplier 1: Digi-Key; Supplier Part Number 1: P19102TR-ND; ComponentLink1Description: Datasheet; ComponentLink1URL: https://industrial.panasonic.com/cdbs/www-data/pdf/AUA0000/AUA0000CE2.pdf; ComponentLink2Description: Digi-Key Listing; ComponentLink2URL: https://www.digikey.com/product-detail/en/panasonic-electronic-components/ERT-J0EG103JM/P19102TR-ND/5878748; Price: 0.0444; Device Package: 0402 (1005 Metric)
footprint FER 0402/1005
pins: 1, 2

## ERT-J0EM103H
designator R?  Resistance in Ohms @ 25C: 10k
THERMISTOR NTC 10K OHM 3% 0402; Part Number: ERT-J0EM103H; Manufacturer: Panasonic Electronic Components; TemperatureRange: -40C ~ 125C; B Value Tolerance: 2%; B25/50: 3375K; B25/85: 3435K; Power - Max: 66mW; Value: 10k; PartId: 16504; Supplier 1: Digi-Key; Supplier Part Number 1: P13701TR-ND; ComponentLink1Description: Datasheet; ComponentLink1URL: http://industrial.panasonic.com/www-cgi/jvcr13pz.cgi?E+PZ+3+AUA0001+ERTJ0EM103H+7+WW; ComponentLink2Description: Digi-Key Listing; ComponentLink2URL: https://www.digikey.com/product-detail/en/panasonic-electronic-components/ERT-J0EM103H/P13701TR-ND/1632228; Price: 0.0843; Resistance Tolerance: 3%; Device Package: 0402 (1005 Metric)
footprint FER 0402/1005
pins: 1, 2

## ERT-J0EM103J
designator R?  Resistance in Ohms @ 25C: 10k
THERMISTOR NTC 10K OHM 5% 0402; Part Number: ERT-J0EM103J; Manufacturer: Panasonic Electronic Components; TemperatureRange: -40C ~ 125C; B Value Tolerance: 1%; B25/50: 3375K; B25/85: 3435K; Power - Max: 66mW; Value: 10k; PartId: 16488; Supplier 1: Digi-Key; Supplier Part Number 1: P12985TR-ND; ComponentLink1Description: Datasheet; ComponentLink1URL: http://industrial.panasonic.com/www-cgi/jvcr13pz.cgi?E+PZ+3+AUA0001+ERTJ0EM103J+7+WW; ComponentLink2Description: Digi-Key Listing; ComponentLink2URL: https://www.digikey.com/product-detail/en/panasonic-electronic-components/ERT-J0EM103J/P12985TR-ND/761141; Price: 0.0485; Resistance Tolerance: 5%; Device Package: 0402 (1005 Metric)
footprint FER 0402/1005
pins: 1, 2

## ERT-J0EP333J
designator R?  Resistance in Ohms @ 25C: 33k
THERMISTOR NTC 33K OHM 5% 0402; Part Number: ERT-J0EP333J; Manufacturer: Panasonic Electronic Components; TemperatureRange: -40C ~ 125C; B Value Tolerance: 2%; B25/50: 4250K; B25/85: 4300K; Power - Max: 66mW; Value: 33k; PartId: 16543; Supplier 1: Digi-Key; Supplier Part Number 1: P13579TR-ND; ComponentLink1Description: Datasheet; ComponentLink1URL: http://industrial.panasonic.com/www-cgi/jvcr13pz.cgi?E+PZ+3+AUA0001+ERTJ0EP333J+7+WW; ComponentLink2Description: Digi-Key Listing; ComponentLink2URL: https://www.digikey.com/product-detail/en/panasonic-electronic-components/ERT-J0EP333J/P13579TR-ND/1140496; Price: 0.1471; Resistance Tolerance: 5%; Device Package: 0402 (1005 Metric)
footprint FER 0402/1005
pins: 1, 2

## ERT-J0EP473F
designator R?  Resistance in Ohms @ 25C: 47k
THERMISTOR NTC 47K OHM 1% 0402; Part Number: ERT-J0EP473F; Manufacturer: Panasonic Electronic Components; TemperatureRange: -40C ~ 125C; B25/50: 4050K; B25/85: 4100K; Power - Max: 66mW; Value: 47k; PartId: 16567; Supplier 1: Digi-Key; Supplier Part Number 1: P15219TR-ND; ComponentLink1Description: Datasheet; ComponentLink1URL: http://industrial.panasonic.com/www-cgi/jvcr13pz.cgi?E+PZ+4+AUA0001+ERTJ0EP473F+8+WW; ComponentLink2Description: Digi-Key Listing; ComponentLink2URL: https://www.digikey.com/product-detail/en/panasonic-electronic-components/ERT-J0EP473F/P15219TR-ND/2812672; Price: 0.0697; Resistance Tolerance: 1%; B Value Tolerance: 1%; Device Package: 0402 (1005 Metric)
footprint FER 0402/1005
pins: 1, 2

## ERT-J0EP473FM
designator R?  Resistance in Ohms @ 25C: 47k
SIZE 0402 / RESISTANCE TOLERANCE; Part Number: ERT-J0EP473FM; Manufacturer: Panasonic Electronic Components; Value: 47k; TemperatureRange: -40C ~ 150C; Resistance Tolerance: 1%; B25/50: 4050K; B25/85: 4100K; Power - Max: 66mW; PartId: 16516; Supplier 1: Digi-Key; Supplier Part Number 1: P19103TR-ND; ComponentLink1Description: Datasheet; ComponentLink1URL: https://industrial.panasonic.com/cdbs/www-data/pdf/AUA0000/AUA0000CE2.pdf; ComponentLink2Description: Digi-Key Listing; ComponentLink2URL: https://www.digikey.com/product-detail/en/panasonic-electronic-components/ERT-J0EP473FM/P19103TR-ND/5878749; Price: 0.0748; B Value Tolerance: 1%; Device Package: 0402 (1005 Metric)
footprint FER 0402/1005
pins: 1, 2

## ERT-J0EP473GM
designator R?  Resistance in Ohms @ 25C: 47k
SIZE 0402 / RESISTANCE TOLERANCE; Part Number: ERT-J0EP473GM; Manufacturer: Panasonic Electronic Components; Value: 47k; TemperatureRange: -40C ~ 150C; Resistance Tolerance: 2%; B Value Tolerance: 1%; B25/50: 4050K; B25/85: 4100K; Power - Max: 66mW; PartId: 16523; Supplier 1: Digi-Key; Supplier Part Number 1: P19104TR-ND; ComponentLink1Description: Datasheet; ComponentLink1URL: https://industrial.panasonic.com/cdbs/www-data/pdf/AUA0000/AUA0000CE2.pdf; ComponentLink2Description: Digi-Key Listing; ComponentLink2URL: https://www.digikey.com/product-detail/en/panasonic-electronic-components/ERT-J0EP473GM/P19104TR-ND/5878750; Price: 0.0624; Device Package: 0402 (1005 Metric)
footprint FER 0402/1005
pins: 1, 2

## ERT-J0EP473HM
designator R?  Resistance in Ohms @ 25C: 47k
SIZE 0402 / RESISTANCE TOLERANCE; Part Number: ERT-J0EP473HM; Manufacturer: Panasonic Electronic Components; Value: 47k; TemperatureRange: -40C ~ 150C; Resistance Tolerance: 3%; B Value Tolerance: 1%; B25/50: 4050K; B25/85: 4100K; Power - Max: 66mW; PartId: 16525; Supplier 1: Digi-Key; Supplier Part Number 1: P19105TR-ND; ComponentLink1Description: Datasheet; ComponentLink1URL: https://industrial.panasonic.com/cdbs/www-data/pdf/AUA0000/AUA0000CE2.pdf; ComponentLink2Description: Digi-Key Listing; ComponentLink2URL: https://www.digikey.com/product-detail/en/panasonic-electronic-components/ERT-J0EP473HM/P19105TR-ND/5878751; Price: 0.054; Device Package: 0402 (1005 Metric)
footprint FER 0402/1005
pins: 1, 2

## ERT-J0EP473J
designator R?  Resistance in Ohms @ 25C: 47k
THERMISTOR NTC 47K OHM 5% 0402; Part Number: ERT-J0EP473J; Manufacturer: Panasonic Electronic Components; TemperatureRange: -40C ~ 125C; B Value Tolerance: 2%; B25/50: 4050K; B25/85: 4100K; Power - Max: 66mW; Value: 47k; PartId: 16497; Supplier 1: Digi-Key; Supplier Part Number 1: P11441TR-ND; ComponentLink1Description: Datasheet; ComponentLink1URL: http://industrial.panasonic.com/www-cgi/jvcr13pz.cgi?E+PZ+3+AUA0001+ERTJ0EP473J+7+WW; ComponentLink2Description: Digi-Key Listing; ComponentLink2URL: https://www.digikey.com/product-detail/en/panasonic-electronic-components/ERT-J0EP473J/P11441TR-ND/429294; Price: 0.0661; Resistance Tolerance: 5%; Device Package: 0402 (1005 Metric)
footprint FER 0402/1005
pins: 1, 2

## ERT-J0EP473JM
designator R?  Resistance in Ohms @ 25C: 47k
SIZE 0402 / RESISTANCE TOLERANCE; Part Number: ERT-J0EP473JM; Manufacturer: Panasonic Electronic Components; Value: 47k; TemperatureRange: -40C ~ 150C; Resistance Tolerance: 5%; B Value Tolerance: 1%; B25/50: 4050K; B25/85: 4100K; Power - Max: 66mW; PartId: 16529; Supplier 1: Digi-Key; Supplier Part Number 1: P19106TR-ND; ComponentLink1Description: Datasheet; ComponentLink1URL: https://industrial.panasonic.com/cdbs/www-data/pdf/AUA0000/AUA0000CE2.pdf; ComponentLink2Description: Digi-Key Listing; ComponentLink2URL: https://www.digikey.com/product-detail/en/panasonic-electronic-components/ERT-J0EP473JM/P19106TR-ND/5878752; Price: 0.0444; Device Package: 0402 (1005 Metric)
footprint FER 0402/1005
pins: 1, 2

## ERT-J0ER103H
designator R?  Resistance in Ohms @ 25C: 10k
THERMISTOR NTC 10K OHM 3% 0402; Part Number: ERT-J0ER103H; Manufacturer: Panasonic Electronic Components; TemperatureRange: -40C ~ 125C; B Value Tolerance: 2%; B25/50: 4250K; B25/85: 4300K; Power - Max: 66mW; Value: 10k; PartId: 16565; Supplier 1: Digi-Key; Supplier Part Number 1: P13702TR-ND; ComponentLink1Description: Datasheet; ComponentLink1URL: http://industrial.panasonic.com/www-cgi/jvcr13pz.cgi?E+PZ+3+AUA0001+ERTJ0ER103H+7+WW; ComponentLink2Description: Digi-Key Listing; ComponentLink2URL: https://www.digikey.com/product-detail/en/panasonic-electronic-components/ERT-J0ER103H/P13702TR-ND/1632229; Price: 0.0843; Resistance Tolerance: 3%; Device Package: 0402 (1005 Metric)
footprint FER 0402/1005
pins: 1, 2

## ERT-J0ER103J
designator R?  Resistance in Ohms @ 25C: 10k
THERMISTOR NTC 10K OHM 5% 0402; Part Number: ERT-J0ER103J; Manufacturer: Panasonic Electronic Components; TemperatureRange: -40C ~ 125C; B Value Tolerance: 2%; B25/50: 4250K; B25/85: 4300K; Power - Max: 66mW; Value: 10k; PartId: 16485; Supplier 1: Digi-Key; Supplier Part Number 1: P10574TR-ND; ComponentLink1Description: Datasheet; ComponentLink1URL: http://industrial.panasonic.com/www-cgi/jvcr13pz.cgi?E+PZ+3+AUA0001+ERTJ0ER103J+7+WW; ComponentLink2Description: Digi-Key Listing; ComponentLink2URL: https://www.digikey.com/product-detail/en/panasonic-electronic-components/ERT-J0ER103J/P10574TR-ND/269380; Price: 0.0661; Resistance Tolerance: 5%; Device Package: 0402 (1005 Metric)
footprint FER 0402/1005
pins: 1, 2

## ERT-J0ER104FM
designator R?  Resistance in Ohms @ 25C: 100k
SIZE 0402 / RESISTANCE TOLERANCE; Part Number: ERT-J0ER104FM; Manufacturer: Panasonic Electronic Components; Value: 100k; TemperatureRange: -40C ~ 150C; Resistance Tolerance: 1%; B25/50: 4100K; B25/85: 4300K; Power - Max: 66mW; PartId: 16520; Supplier 1: Digi-Key; Supplier Part Number 1: P19107TR-ND; ComponentLink1Description: Datasheet; ComponentLink1URL: https://industrial.panasonic.com/cdbs/www-data/pdf/AUA0000/AUA0000CE2.pdf; ComponentLink2Description: Digi-Key Listing; ComponentLink2URL: https://www.digikey.com/product-detail/en/panasonic-electronic-components/ERT-J0ER104FM/P19107TR-ND/5878753; Price: 0.0734; B Value Tolerance: 1%; Device Package: 0402 (1005 Metric)
footprint FER 0402/1005
pins: 1, 2